# Altium integrated library Cypress Clocks & Buffers Clock Distribution.IntLib: 321 symbols (part 15 of 25)
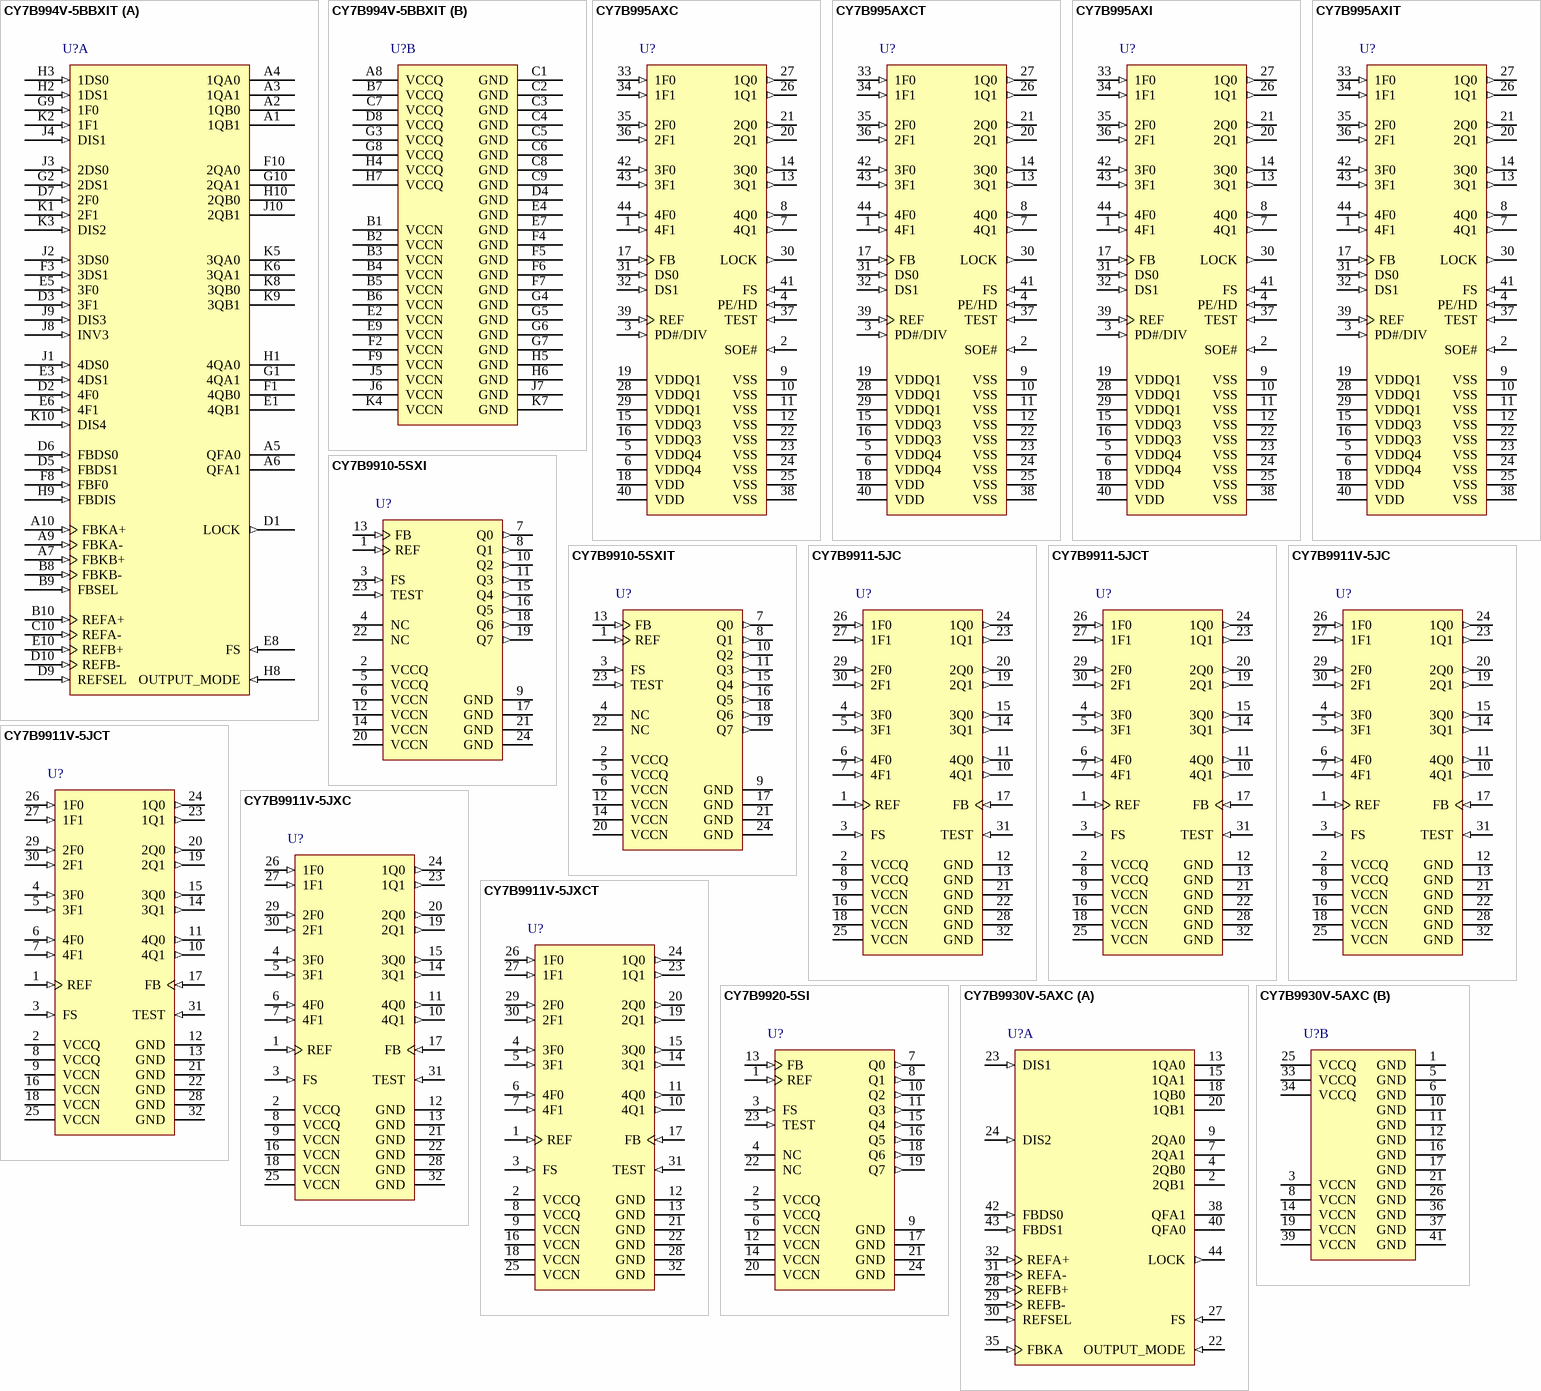
[diagram p30: symbols CY7B994V-5BBXIT to CY7B9930V-5AXC]

## CY7B9930V-5AXC
designator U?
High Speed Multifrequency PLL Clock Buffer, 3.3 V, 10 Outputs, 12 to 100 MHz, 0 to 70 degC, 44-Pin TQFP (AX44), Tube; Manufacturer: Cypress; PartNumber: CY7B9930V-5AXC; Input Frequency Max. (MHz): 100; Input Frequency Min. (MHz): 12; Max. Operating Voltage (V): 3.6; Min. Operating Voltage (V): 3; No. of Outputs: 10; DatasheetVersion: Rev. *H; PackageVersion: Rev. *E; PackageReference: AX44; PackageDescription: 44-pin TQFP, Body 12 x 12 mm, Pitch 0.8 mm; Supplier 1: Digi-Key; Supplier Part Number 1: CY7B9930V-5AXC-ND; Supplier 2: Mouser; Supplier Part Number 2: 727-CY7B9930V5AXC; Max. Operating Temp. (degreesC): 70; Min. Operating Temp. (degreesC): 0; Output Frequency Max. (MHz): 100; Output Frequency Min. (MHz): 12; Packing: Tube; RoHS: Pb-Free; Mounting Technology: Surface Mount; Code_JEDEC: MS-026; ComponentLink1Description: Manufacturer URL; ComponentLink1URL: http://www.cypress.com/; ComponentLink2Description: Datasheet; ComponentLink2URL: http://www.cypress.com/?docID=46788; ComponentLink3Description: Package Specification; ComponentLink3URL: http://www.cypress.com/?docID=46324
footprint CYP-AX44-51-85064_N (TQFP, 44-Leads, Body 10x10mm, Pitch 0.8mm, IPC Medium Density)
footprint CYP-AX44-51-85064_L (TQFP, 44-Leads, Body 10x10mm, Pitch 0.8mm, IPC High Density)
footprint CYP-AX44-51-85064_M (TQFP, 44-Leads, Body 10x10mm, Pitch 0.8mm, IPC Low Density)
part A pins: 2 2QB1 (hiz) "Clock Output.", 4 2QB0 (hiz) "Clock Output.", 7 2QA1 (hiz) "Clock Output.", 9 2QA0 (hiz) "Clock Output.", 13 1QA0 (hiz) "Clock Output.", 15 1QA1 (hiz) "Clock Output.", 18 1QB0 (hiz) "Clock Output.", 20 1QB1 (hiz) "Clock Output.", 22 OUTPUT_MODE (in) "Output Mode: This pin determines the clock outputs’ disable state. When this input is HIGH, the clock outputs disable to high impedance (HI-Z). When this input is LOW, the clock outputs disables to “HOLD OFF” (See Datasheet)", 23 DIS1 (in) "Output Disable: Each input controls the state of the respective output bank. When HIGH, the output bank is disabled to the “HOLD OFF” or “HI-Z” state; the disable state is determined by OUTPUT_MODE. When L(See Datasheet)", 24 DIS2 (in) "Output Disable: Each input controls the state of the respective output bank. When HIGH, the output bank is disabled to the “HOLD OFF” or “HI-Z” state; the disable state is determined by OUTPUT_MODE. When L(See Datasheet)", 27 FS (in) "Frequency Select: Set this input according to the nominal frequency (fNOM). See Table 1.", 28 REFB+ (in) "Reference Inputs: These inputs operate as either differential PECL or single ended TTL reference inputs to the PLL. When operating as a single ended LVTTL input, leave the complementary input must be left open.", 29 REFB- (in) "Reference Inputs: These inputs operate as either differential PECL or single ended TTL reference inputs to the PLL. When operating as a single ended LVTTL input, leave the complementary input must be left open.", 30 REFSEL (in) "Reference Select Input: The REFSEL input controls reference input configuration. When LOW, it uses the REFA pair as the reference input. When HIGH, it uses the REFB pair as the reference input. This input has an internal (See Datasheet)", 31 REFA- (in) "Reference Inputs: These inputs operate as either differential PECL or single ended TTL reference inputs to the PLL. When operating as a single ended LVTTL input, leave the complementary input must be left open.", 32 REFA+ (in) "Reference Inputs: These inputs operate as either differential PECL or single ended TTL reference inputs to the PLL. When operating as a single ended LVTTL input, leave the complementary input must be left open.", 35 FBKA (in) "Feedback Input.", 38 QFA1 (hiz) "Clock Feedback Output: This pair of clock outputs connects to the FB input. These outputs have numerous divide options. The function is determined by the setting of the FBDS[0:1] pins.", 40 QFA0 (hiz) "Clock Feedback Output: This pair of clock outputs connects to the FB input. These outputs have numerous divide options. The function is determined by the setting of the FBDS[0:1] pins.", 42 FBDS0 (in) "Feedback Divider Function Select. These inputs determine the function of the QFA0 and QFA1 outputs. See Table 2.", 43 FBDS1 (in) "Feedback Divider Function Select. These inputs determine the function of the QFA0 and QFA1 outputs. See Table 2.", 44 LOCK (out) "PLL Lock Indicator: When HIGH, this output indicates that the internal PLL is locked to the reference signal. When LOW, the PLL is attempting to acquire lock."
part B pins: 1 GND (power) "Device Ground.", 3 VCCN (power) "Output Buffer Power: Power supply for each output pair.", 5 GND (power) "Device Ground.", 6 GND (power) "Device Ground.", 8 VCCN (power) "Output Buffer Power: Power supply for each output pair.", 10 GND (power) "Device Ground.", 11 GND (power) "Device Ground.", 12 GND (power) "Device Ground.", 14 VCCN (power) "Output Buffer Power: Power supply for each output pair.", 16 GND (power) "Device Ground.", 17 GND (power) "Device Ground.", 19 VCCN (power) "Output Buffer Power: Power supply for each output pair.", 21 GND (power) "Device Ground.", 25 VCCQ (power) "Internal Power: Power supply for the internal circuitry.", 26 GND (power) "Device Ground.", 33 VCCQ (power) "Internal Power: Power supply for the internal circuitry.", 34 VCCQ (power) "Internal Power: Power supply for the internal circuitry.", 36 GND (power) "Device Ground.", 37 GND (power) "Device Ground.", 39 VCCN (power) "Output Buffer Power: Power supply for each output pair.", 41 GND (power) "Device Ground."

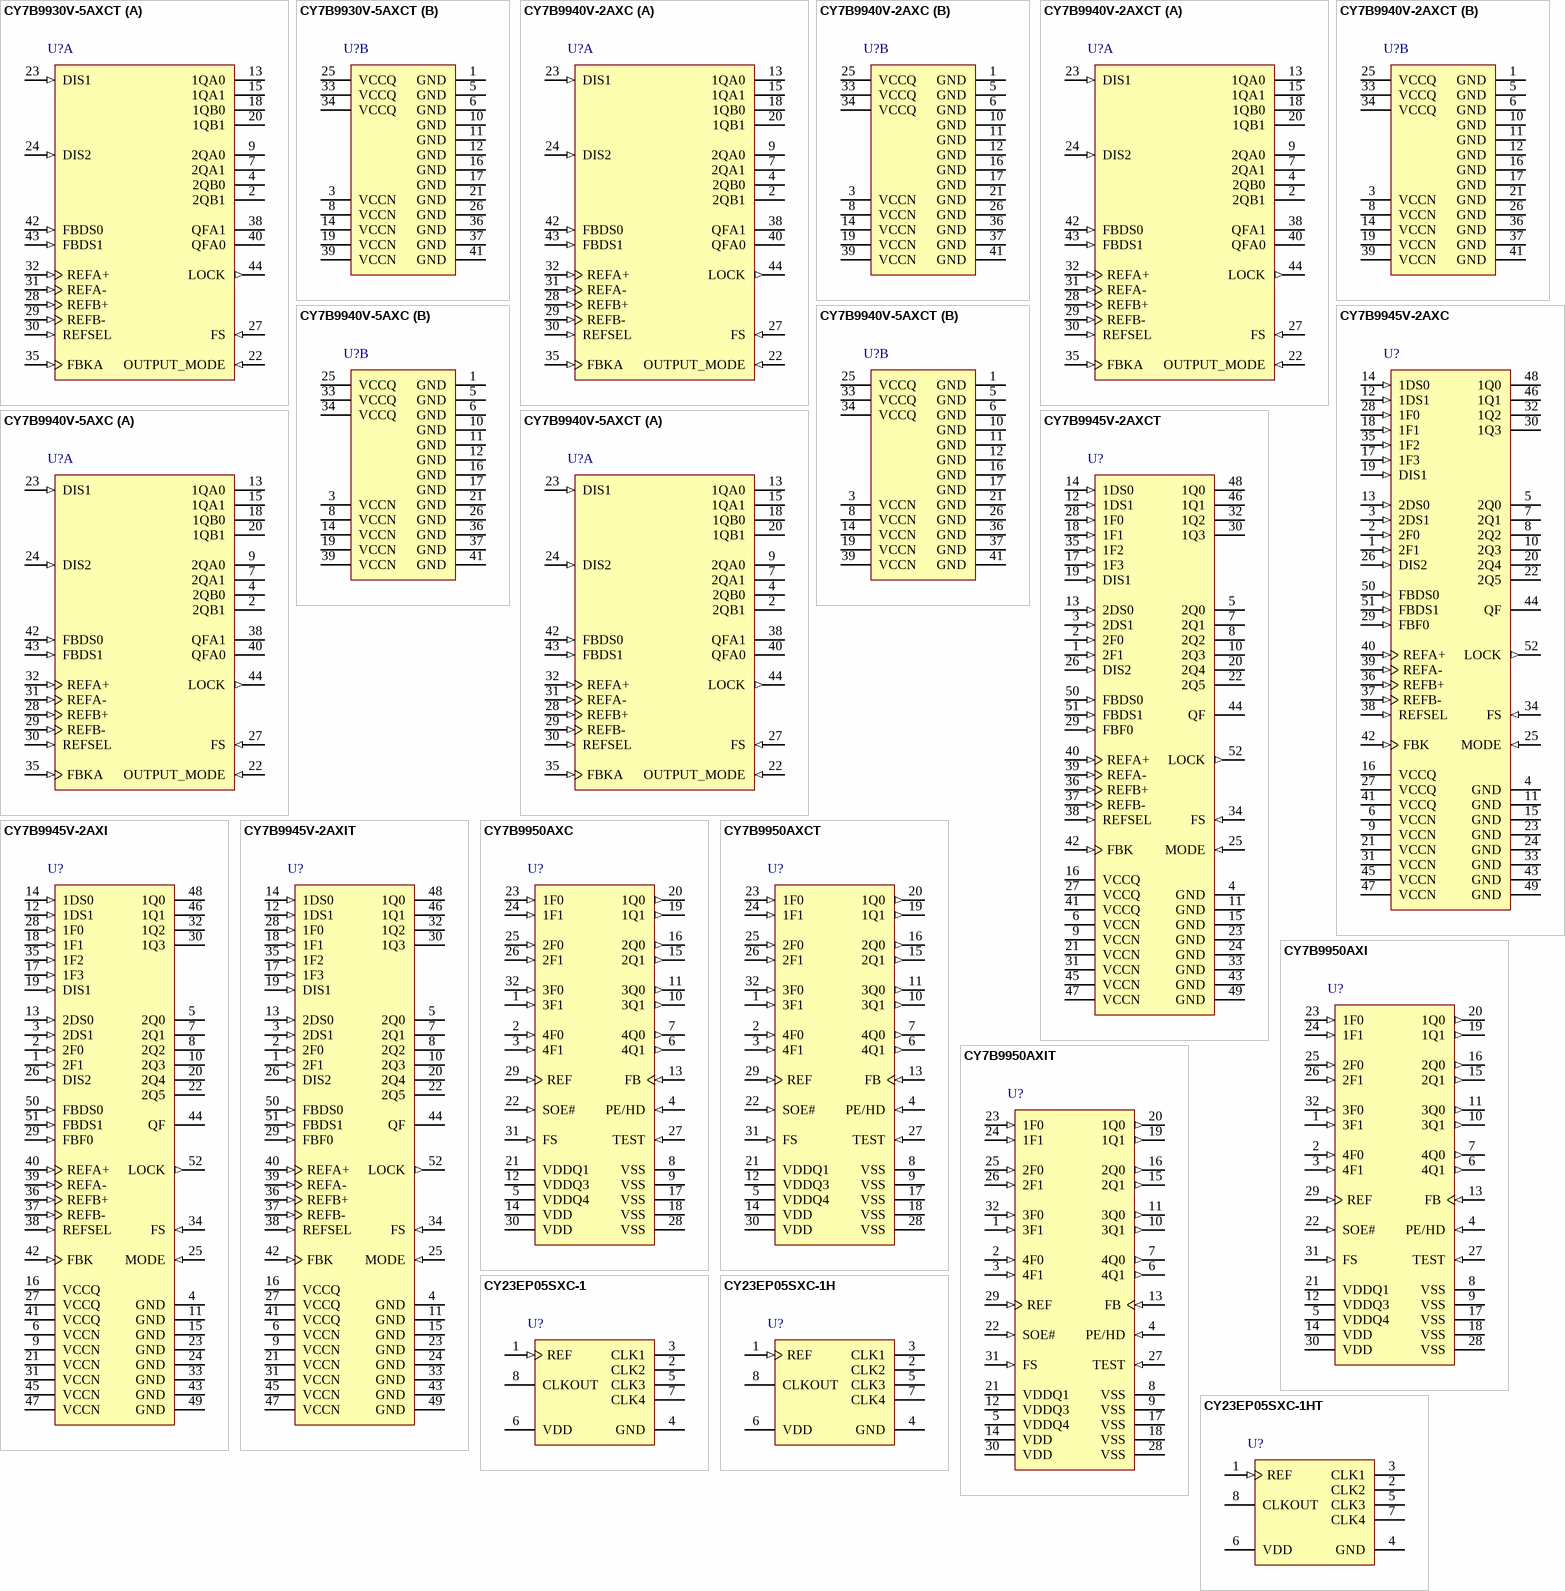
[diagram p9: symbols CY7B9930V-5AXCT to CY23EP05SXC-1HT]

## CY7B9930V-5AXCT
designator U?
High Speed Multifrequency PLL Clock Buffer, 3.3 V, 10 Outputs, 12 to 100 MHz, 0 to 70 degC, 44-Pin TQFP (AX44), Tape and Reel; Manufacturer: Cypress; PartNumber: CY7B9930V-5AXCT; Input Frequency Max. (MHz): 100; Input Frequency Min. (MHz): 12; Max. Operating Voltage (V): 3.6; Min. Operating Voltage (V): 3; No. of Outputs: 10; DatasheetVersion: Rev. *H; PackageVersion: Rev. *E; PackageReference: AX44; PackageDescription: 44-pin TQFP, Body 12 x 12 mm, Pitch 0.8 mm; Supplier 1: Digi-Key; Supplier Part Number 1: CY7B9930V-5AXCT-ND; Supplier 2: Mouser; Supplier Part Number 2: 727-CY7B9930V5AXCT; Max. Operating Temp. (degreesC): 70; Min. Operating Temp. (degreesC): 0; Output Frequency Max. (MHz): 100; Output Frequency Min. (MHz): 12; Packing: Tape and Reel; RoHS: Pb-Free; Mounting Technology: Surface Mount; Code_JEDEC: MS-026; ComponentLink1Description: Manufacturer URL; ComponentLink1URL: http://www.cypress.com/; ComponentLink2Description: Datasheet; ComponentLink2URL: http://www.cypress.com/?docID=46788; ComponentLink3Description: Package Specification; ComponentLink3URL: http://www.cypress.com/?docID=46324
footprint CYP-AX44-51-85064_N (TQFP, 44-Leads, Body 10x10mm, Pitch 0.8mm, IPC Medium Density)
footprint CYP-AX44-51-85064_L (TQFP, 44-Leads, Body 10x10mm, Pitch 0.8mm, IPC High Density)
footprint CYP-AX44-51-85064_M (TQFP, 44-Leads, Body 10x10mm, Pitch 0.8mm, IPC Low Density)
part A pins: 2 2QB1 (hiz) "Clock Output.", 4 2QB0 (hiz) "Clock Output.", 7 2QA1 (hiz) "Clock Output.", 9 2QA0 (hiz) "Clock Output.", 13 1QA0 (hiz) "Clock Output.", 15 1QA1 (hiz) "Clock Output.", 18 1QB0 (hiz) "Clock Output.", 20 1QB1 (hiz) "Clock Output.", 22 OUTPUT_MODE (in) "Output Mode: This pin determines the clock outputs’ disable state. When this input is HIGH, the clock outputs disable to high impedance (HI-Z). When this input is LOW, the clock outputs disables to “HOLD OFF” (See Datasheet)", 23 DIS1 (in) "Output Disable: Each input controls the state of the respective output bank. When HIGH, the output bank is disabled to the “HOLD OFF” or “HI-Z” state; the disable state is determined by OUTPUT_MODE. When L(See Datasheet)", 24 DIS2 (in) "Output Disable: Each input controls the state of the respective output bank. When HIGH, the output bank is disabled to the “HOLD OFF” or “HI-Z” state; the disable state is determined by OUTPUT_MODE. When L(See Datasheet)", 27 FS (in) "Frequency Select: Set this input according to the nominal frequency (fNOM). See Table 1.", 28 REFB+ (in) "Reference Inputs: These inputs operate as either differential PECL or single ended TTL reference inputs to the PLL. When operating as a single ended LVTTL input, leave the complementary input must be left open.", 29 REFB- (in) "Reference Inputs: These inputs operate as either differential PECL or single ended TTL reference inputs to the PLL. When operating as a single ended LVTTL input, leave the complementary input must be left open.", 30 REFSEL (in) "Reference Select Input: The REFSEL input controls reference input configuration. When LOW, it uses the REFA pair as the reference input. When HIGH, it uses the REFB pair as the reference input. This input has an internal (See Datasheet)", 31 REFA- (in) "Reference Inputs: These inputs operate as either differential PECL or single ended TTL reference inputs to the PLL. When operating as a single ended LVTTL input, leave the complementary input must be left open.", 32 REFA+ (in) "Reference Inputs: These inputs operate as either differential PECL or single ended TTL reference inputs to the PLL. When operating as a single ended LVTTL input, leave the complementary input must be left open.", 35 FBKA (in) "Feedback Input.", 38 QFA1 (hiz) "Clock Feedback Output: This pair of clock outputs connects to the FB input. These outputs have numerous divide options. The function is determined by the setting of the FBDS[0:1] pins.", 40 QFA0 (hiz) "Clock Feedback Output: This pair of clock outputs connects to the FB input. These outputs have numerous divide options. The function is determined by the setting of the FBDS[0:1] pins.", 42 FBDS0 (in) "Feedback Divider Function Select. These inputs determine the function of the QFA0 and QFA1 outputs. See Table 2.", 43 FBDS1 (in) "Feedback Divider Function Select. These inputs determine the function of the QFA0 and QFA1 outputs. See Table 2.", 44 LOCK (out) "PLL Lock Indicator: When HIGH, this output indicates that the internal PLL is locked to the reference signal. When LOW, the PLL is attempting to acquire lock."
part B pins: 1 GND (power) "Device Ground.", 3 VCCN (power) "Output Buffer Power: Power supply for each output pair.", 5 GND (power) "Device Ground.", 6 GND (power) "Device Ground.", 8 VCCN (power) "Output Buffer Power: Power supply for each output pair.", 10 GND (power) "Device Ground.", 11 GND (power) "Device Ground.", 12 GND (power) "Device Ground.", 14 VCCN (power) "Output Buffer Power: Power supply for each output pair.", 16 GND (power) "Device Ground.", 17 GND (power) "Device Ground.", 19 VCCN (power) "Output Buffer Power: Power supply for each output pair.", 21 GND (power) "Device Ground.", 25 VCCQ (power) "Internal Power: Power supply for the internal circuitry.", 26 GND (power) "Device Ground.", 33 VCCQ (power) "Internal Power: Power supply for the internal circuitry.", 34 VCCQ (power) "Internal Power: Power supply for the internal circuitry.", 36 GND (power) "Device Ground.", 37 GND (power) "Device Ground.", 39 VCCN (power) "Output Buffer Power: Power supply for each output pair.", 41 GND (power) "Device Ground."

## CY7B9940V-2AXC
designator U?
High Speed Multifrequency PLL Clock Buffer, 3.3 V, 10 Outputs, 24 to 200 MHz, 0 to 70 degC, 44-Pin TQFP (AX44), Tube; Manufacturer: Cypress; PartNumber: CY7B9940V-2AXC; Input Frequency Max. (MHz): 200; Input Frequency Min. (MHz): 24; Max. Operating Voltage (V): 3.6; Min. Operating Voltage (V): 3; No. of Outputs: 10; DatasheetVersion: Rev. *H; PackageVersion: Rev. *E; PackageReference: AX44; PackageDescription: 44-pin TQFP, Body 12 x 12 mm, Pitch 0.8 mm; Supplier 1: Digi-Key; Supplier Part Number 1: CY7B9940V-2AXC-ND; Supplier 2: Mouser; Supplier Part Number 2: 727-CY7B9940V2AXC; Max. Operating Temp. (degreesC): 70; Min. Operating Temp. (degreesC): 0; Output Frequency Max. (MHz): 200; Output Frequency Min. (MHz): 24; Packing: Tube; RoHS: Pb-Free; Mounting Technology: Surface Mount; Code_JEDEC: MS-026; ComponentLink1Description: Manufacturer URL; ComponentLink1URL: http://www.cypress.com/; ComponentLink2Description: Datasheet; ComponentLink2URL: http://www.cypress.com/?docID=46788; ComponentLink3Description: Package Specification; ComponentLink3URL: http://www.cypress.com/?docID=46324
footprint CYP-AX44-51-85064_N (TQFP, 44-Leads, Body 10x10mm, Pitch 0.8mm, IPC Medium Density)
footprint CYP-AX44-51-85064_L (TQFP, 44-Leads, Body 10x10mm, Pitch 0.8mm, IPC High Density)
footprint CYP-AX44-51-85064_M (TQFP, 44-Leads, Body 10x10mm, Pitch 0.8mm, IPC Low Density)
part A pins: 2 2QB1 (hiz) "Clock Output.", 4 2QB0 (hiz) "Clock Output.", 7 2QA1 (hiz) "Clock Output.", 9 2QA0 (hiz) "Clock Output.", 13 1QA0 (hiz) "Clock Output.", 15 1QA1 (hiz) "Clock Output.", 18 1QB0 (hiz) "Clock Output.", 20 1QB1 (hiz) "Clock Output.", 22 OUTPUT_MODE (in) "Output Mode: This pin determines the clock outputs’ disable state. When this input is HIGH, the clock outputs disable to high impedance (HI-Z). When this input is LOW, the clock outputs disables to “HOLD OFF” (See Datasheet)", 23 DIS1 (in) "Output Disable: Each input controls the state of the respective output bank. When HIGH, the output bank is disabled to the “HOLD OFF” or “HI-Z” state; the disable state is determined by OUTPUT_MODE. When L(See Datasheet)", 24 DIS2 (in) "Output Disable: Each input controls the state of the respective output bank. When HIGH, the output bank is disabled to the “HOLD OFF” or “HI-Z” state; the disable state is determined by OUTPUT_MODE. When L(See Datasheet)", 27 FS (in) "Frequency Select: Set this input according to the nominal frequency (fNOM). See Table 1.", 28 REFB+ (in) "Reference Inputs: These inputs operate as either differential PECL or single ended TTL reference inputs to the PLL. When operating as a single ended LVTTL input, leave the complementary input must be left open.", 29 REFB- (in) "Reference Inputs: These inputs operate as either differential PECL or single ended TTL reference inputs to the PLL. When operating as a single ended LVTTL input, leave the complementary input must be left open.", 30 REFSEL (in) "Reference Select Input: The REFSEL input controls reference input configuration. When LOW, it uses the REFA pair as the reference input. When HIGH, it uses the REFB pair as the reference input. This input has an internal (See Datasheet)", 31 REFA- (in) "Reference Inputs: These inputs operate as either differential PECL or single ended TTL reference inputs to the PLL. When operating as a single ended LVTTL input, leave the complementary input must be left open.", 32 REFA+ (in) "Reference Inputs: These inputs operate as either differential PECL or single ended TTL reference inputs to the PLL. When operating as a single ended LVTTL input, leave the complementary input must be left open.", 35 FBKA (in) "Feedback Input.", 38 QFA1 (hiz) "Clock Feedback Output: This pair of clock outputs connects to the FB input. These outputs have numerous divide options. The function is determined by the setting of the FBDS[0:1] pins.", 40 QFA0 (hiz) "Clock Feedback Output: This pair of clock outputs connects to the FB input. These outputs have numerous divide options. The function is determined by the setting of the FBDS[0:1] pins.", 42 FBDS0 (in) "Feedback Divider Function Select. These inputs determine the function of the QFA0 and QFA1 outputs. See Table 2.", 43 FBDS1 (in) "Feedback Divider Function Select. These inputs determine the function of the QFA0 and QFA1 outputs. See Table 2.", 44 LOCK (out) "PLL Lock Indicator: When HIGH, this output indicates that the internal PLL is locked to the reference signal. When LOW, the PLL is attempting to acquire lock."
part B pins: 1 GND (power) "Device Ground.", 3 VCCN (power) "Output Buffer Power: Power supply for each output pair.", 5 GND (power) "Device Ground.", 6 GND (power) "Device Ground.", 8 VCCN (power) "Output Buffer Power: Power supply for each output pair.", 10 GND (power) "Device Ground.", 11 GND (power) "Device Ground.", 12 GND (power) "Device Ground.", 14 VCCN (power) "Output Buffer Power: Power supply for each output pair.", 16 GND (power) "Device Ground.", 17 GND (power) "Device Ground.", 19 VCCN (power) "Output Buffer Power: Power supply for each output pair.", 21 GND (power) "Device Ground.", 25 VCCQ (power) "Internal Power: Power supply for the internal circuitry.", 26 GND (power) "Device Ground.", 33 VCCQ (power) "Internal Power: Power supply for the internal circuitry.", 34 VCCQ (power) "Internal Power: Power supply for the internal circuitry.", 36 GND (power) "Device Ground.", 37 GND (power) "Device Ground.", 39 VCCN (power) "Output Buffer Power: Power supply for each output pair.", 41 GND (power) "Device Ground."

## CY7B9940V-2AXCT
designator U?
High Speed Multifrequency PLL Clock Buffer, 3.3 V, 10 Outputs, 24 to 200 MHz, 0 to 70 degC, 44-Pin TQFP (AX44), Tape and Reel; Manufacturer: Cypress; PartNumber: CY7B9940V-2AXCT; Input Frequency Max. (MHz): 200; Input Frequency Min. (MHz): 24; Max. Operating Voltage (V): 3.6; Min. Operating Voltage (V): 3; No. of Outputs: 10; DatasheetVersion: Rev. *H; PackageVersion: Rev. *E; PackageReference: AX44; PackageDescription: 44-pin TQFP, Body 12 x 12 mm, Pitch 0.8 mm; Supplier 1: Digi-Key; Supplier Part Number 1: CY7B9940V-2AXCT-ND; Supplier 2: Mouser; Supplier Part Number 2: 727-CY7B9940V2AXCT; Max. Operating Temp. (degreesC): 70; Min. Operating Temp. (degreesC): 0; Output Frequency Max. (MHz): 200; Output Frequency Min. (MHz): 24; Packing: Tape and Reel; RoHS: Pb-Free; Mounting Technology: Surface Mount; Code_JEDEC: MS-026; ComponentLink1Description: Manufacturer URL; ComponentLink1URL: http://www.cypress.com/; ComponentLink2Description: Datasheet; ComponentLink2URL: http://www.cypress.com/?docID=46788; ComponentLink3Description: Package Specification; ComponentLink3URL: http://www.cypress.com/?docID=46324
footprint CYP-AX44-51-85064_N (TQFP, 44-Leads, Body 10x10mm, Pitch 0.8mm, IPC Medium Density)
footprint CYP-AX44-51-85064_L (TQFP, 44-Leads, Body 10x10mm, Pitch 0.8mm, IPC High Density)
footprint CYP-AX44-51-85064_M (TQFP, 44-Leads, Body 10x10mm, Pitch 0.8mm, IPC Low Density)
part A pins: 2 2QB1 (hiz) "Clock Output.", 4 2QB0 (hiz) "Clock Output.", 7 2QA1 (hiz) "Clock Output.", 9 2QA0 (hiz) "Clock Output.", 13 1QA0 (hiz) "Clock Output.", 15 1QA1 (hiz) "Clock Output.", 18 1QB0 (hiz) "Clock Output.", 20 1QB1 (hiz) "Clock Output.", 22 OUTPUT_MODE (in) "Output Mode: This pin determines the clock outputs’ disable state. When this input is HIGH, the clock outputs disable to high impedance (HI-Z). When this input is LOW, the clock outputs disables to “HOLD OFF” (See Datasheet)", 23 DIS1 (in) "Output Disable: Each input controls the state of the respective output bank. When HIGH, the output bank is disabled to the “HOLD OFF” or “HI-Z” state; the disable state is determined by OUTPUT_MODE. When L(See Datasheet)", 24 DIS2 (in) "Output Disable: Each input controls the state of the respective output bank. When HIGH, the output bank is disabled to the “HOLD OFF” or “HI-Z” state; the disable state is determined by OUTPUT_MODE. When L(See Datasheet)", 27 FS (in) "Frequency Select: Set this input according to the nominal frequency (fNOM). See Table 1.", 28 REFB+ (in) "Reference Inputs: These inputs operate as either differential PECL or single ended TTL reference inputs to the PLL. When operating as a single ended LVTTL input, leave the complementary input must be left open.", 29 REFB- (in) "Reference Inputs: These inputs operate as either differential PECL or single ended TTL reference inputs to the PLL. When operating as a single ended LVTTL input, leave the complementary input must be left open.", 30 REFSEL (in) "Reference Select Input: The REFSEL input controls reference input configuration. When LOW, it uses the REFA pair as the reference input. When HIGH, it uses the REFB pair as the reference input. This input has an internal (See Datasheet)", 31 REFA- (in) "Reference Inputs: These inputs operate as either differential PECL or single ended TTL reference inputs to the PLL. When operating as a single ended LVTTL input, leave the complementary input must be left open.", 32 REFA+ (in) "Reference Inputs: These inputs operate as either differential PECL or single ended TTL reference inputs to the PLL. When operating as a single ended LVTTL input, leave the complementary input must be left open.", 35 FBKA (in) "Feedback Input.", 38 QFA1 (hiz) "Clock Feedback Output: This pair of clock outputs connects to the FB input. These outputs have numerous divide options. The function is determined by the setting of the FBDS[0:1] pins.", 40 QFA0 (hiz) "Clock Feedback Output: This pair of clock outputs connects to the FB input. These outputs have numerous divide options. The function is determined by the setting of the FBDS[0:1] pins.", 42 FBDS0 (in) "Feedback Divider Function Select. These inputs determine the function of the QFA0 and QFA1 outputs. See Table 2.", 43 FBDS1 (in) "Feedback Divider Function Select. These inputs determine the function of the QFA0 and QFA1 outputs. See Table 2.", 44 LOCK (out) "PLL Lock Indicator: When HIGH, this output indicates that the internal PLL is locked to the reference signal. When LOW, the PLL is attempting to acquire lock."
part B pins: 1 GND (power) "Device Ground.", 3 VCCN (power) "Output Buffer Power: Power supply for each output pair.", 5 GND (power) "Device Ground.", 6 GND (power) "Device Ground.", 8 VCCN (power) "Output Buffer Power: Power supply for each output pair.", 10 GND (power) "Device Ground.", 11 GND (power) "Device Ground.", 12 GND (power) "Device Ground.", 14 VCCN (power) "Output Buffer Power: Power supply for each output pair.", 16 GND (power) "Device Ground.", 17 GND (power) "Device Ground.", 19 VCCN (power) "Output Buffer Power: Power supply for each output pair.", 21 GND (power) "Device Ground.", 25 VCCQ (power) "Internal Power: Power supply for the internal circuitry.", 26 GND (power) "Device Ground.", 33 VCCQ (power) "Internal Power: Power supply for the internal circuitry.", 34 VCCQ (power) "Internal Power: Power supply for the internal circuitry.", 36 GND (power) "Device Ground.", 37 GND (power) "Device Ground.", 39 VCCN (power) "Output Buffer Power: Power supply for each output pair.", 41 GND (power) "Device Ground."

## CY7B9940V-5AXC
designator U?
High Speed Multifrequency PLL Clock Buffer, 3.3 V, 10 Outputs, 24 to 200 MHz, 0 to 70 degC, 44-Pin TQFP (AX44), Tube; Manufacturer: Cypress; PartNumber: CY7B9940V-5AXC; Input Frequency Max. (MHz): 200; Input Frequency Min. (MHz): 24; Max. Operating Voltage (V): 3.6; Min. Operating Voltage (V): 3; No. of Outputs: 10; DatasheetVersion: Rev. *H; PackageVersion: Rev. *E; PackageReference: AX44; PackageDescription: 44-pin TQFP, Body 12 x 12 mm, Pitch 0.8 mm; Supplier 1: Digi-Key; Supplier Part Number 1: CY7B9940V-5AXC-ND; Supplier 2: Mouser; Supplier Part Number 2: 727-CY7B9940V5AXC; Max. Operating Temp. (degreesC): 70; Min. Operating Temp. (degreesC): 0; Output Frequency Max. (MHz): 200; Output Frequency Min. (MHz): 24; Packing: Tube; RoHS: Pb-Free; Mounting Technology: Surface Mount; Code_JEDEC: MS-026; ComponentLink1Description: Manufacturer URL; ComponentLink1URL: http://www.cypress.com/; ComponentLink2Description: Datasheet; ComponentLink2URL: http://www.cypress.com/?docID=46788; ComponentLink3Description: Package Specification; ComponentLink3URL: http://www.cypress.com/?docID=46324
footprint CYP-AX44-51-85064_N (TQFP, 44-Leads, Body 10x10mm, Pitch 0.8mm, IPC Medium Density)
footprint CYP-AX44-51-85064_L (TQFP, 44-Leads, Body 10x10mm, Pitch 0.8mm, IPC High Density)
footprint CYP-AX44-51-85064_M (TQFP, 44-Leads, Body 10x10mm, Pitch 0.8mm, IPC Low Density)
part A pins: 2 2QB1 (hiz) "Clock Output.", 4 2QB0 (hiz) "Clock Output.", 7 2QA1 (hiz) "Clock Output.", 9 2QA0 (hiz) "Clock Output.", 13 1QA0 (hiz) "Clock Output.", 15 1QA1 (hiz) "Clock Output.", 18 1QB0 (hiz) "Clock Output.", 20 1QB1 (hiz) "Clock Output.", 22 OUTPUT_MODE (in) "Output Mode: This pin determines the clock outputs’ disable state. When this input is HIGH, the clock outputs disable to high impedance (HI-Z). When this input is LOW, the clock outputs disables to “HOLD OFF” (See Datasheet)", 23 DIS1 (in) "Output Disable: Each input controls the state of the respective output bank. When HIGH, the output bank is disabled to the “HOLD OFF” or “HI-Z” state; the disable state is determined by OUTPUT_MODE. When L(See Datasheet)", 24 DIS2 (in) "Output Disable: Each input controls the state of the respective output bank. When HIGH, the output bank is disabled to the “HOLD OFF” or “HI-Z” state; the disable state is determined by OUTPUT_MODE. When L(See Datasheet)", 27 FS (in) "Frequency Select: Set this input according to the nominal frequency (fNOM). See Table 1.", 28 REFB+ (in) "Reference Inputs: These inputs operate as either differential PECL or single ended TTL reference inputs to the PLL. When operating as a single ended LVTTL input, leave the complementary input must be left open.", 29 REFB- (in) "Reference Inputs: These inputs operate as either differential PECL or single ended TTL reference inputs to the PLL. When operating as a single ended LVTTL input, leave the complementary input must be left open.", 30 REFSEL (in) "Reference Select Input: The REFSEL input controls reference input configuration. When LOW, it uses the REFA pair as the reference input. When HIGH, it uses the REFB pair as the reference input. This input has an internal (See Datasheet)", 31 REFA- (in) "Reference Inputs: These inputs operate as either differential PECL or single ended TTL reference inputs to the PLL. When operating as a single ended LVTTL input, leave the complementary input must be left open.", 32 REFA+ (in) "Reference Inputs: These inputs operate as either differential PECL or single ended TTL reference inputs to the PLL. When operating as a single ended LVTTL input, leave the complementary input must be left open.", 35 FBKA (in) "Feedback Input.", 38 QFA1 (hiz) "Clock Feedback Output: This pair of clock outputs connects to the FB input. These outputs have numerous divide options. The function is determined by the setting of the FBDS[0:1] pins.", 40 QFA0 (hiz) "Clock Feedback Output: This pair of clock outputs connects to the FB input. These outputs have numerous divide options. The function is determined by the setting of the FBDS[0:1] pins.", 42 FBDS0 (in) "Feedback Divider Function Select. These inputs determine the function of the QFA0 and QFA1 outputs. See Table 2.", 43 FBDS1 (in) "Feedback Divider Function Select. These inputs determine the function of the QFA0 and QFA1 outputs. See Table 2.", 44 LOCK (out) "PLL Lock Indicator: When HIGH, this output indicates that the internal PLL is locked to the reference signal. When LOW, the PLL is attempting to acquire lock."
part B pins: 1 GND (power) "Device Ground.", 3 VCCN (power) "Output Buffer Power: Power supply for each output pair.", 5 GND (power) "Device Ground.", 6 GND (power) "Device Ground.", 8 VCCN (power) "Output Buffer Power: Power supply for each output pair.", 10 GND (power) "Device Ground.", 11 GND (power) "Device Ground.", 12 GND (power) "Device Ground.", 14 VCCN (power) "Output Buffer Power: Power supply for each output pair.", 16 GND (power) "Device Ground.", 17 GND (power) "Device Ground.", 19 VCCN (power) "Output Buffer Power: Power supply for each output pair.", 21 GND (power) "Device Ground.", 25 VCCQ (power) "Internal Power: Power supply for the internal circuitry.", 26 GND (power) "Device Ground.", 33 VCCQ (power) "Internal Power: Power supply for the internal circuitry.", 34 VCCQ (power) "Internal Power: Power supply for the internal circuitry.", 36 GND (power) "Device Ground.", 37 GND (power) "Device Ground.", 39 VCCN (power) "Output Buffer Power: Power supply for each output pair.", 41 GND (power) "Device Ground."

## CY7B9940V-5AXCT
designator U?
High Speed Multifrequency PLL Clock Buffer, 3.3 V, 10 Outputs, 24 to 200 MHz, 0 to 70 degC, 44-Pin TQFP (AX44), Tape and Reel; Manufacturer: Cypress; PartNumber: CY7B9940V-5AXCT; Input Frequency Max. (MHz): 200; Input Frequency Min. (MHz): 24; Max. Operating Voltage (V): 3.6; Min. Operating Voltage (V): 3; No. of Outputs: 10; DatasheetVersion: Rev. *H; PackageVersion: Rev. *E; PackageReference: AX44; PackageDescription: 44-pin TQFP, Body 12 x 12 mm, Pitch 0.8 mm; Supplier 1: Digi-Key; Supplier Part Number 1: CY7B9940V-5AXCT-ND; Supplier 2: Mouser; Supplier Part Number 2: 727-CY7B9940V5AXCT; Max. Operating Temp. (degreesC): 70; Min. Operating Temp. (degreesC): 0; Output Frequency Max. (MHz): 200; Output Frequency Min. (MHz): 24; Packing: Tape and Reel; RoHS: Pb-Free; Mounting Technology: Surface Mount; Code_JEDEC: MS-026; ComponentLink1Description: Manufacturer URL; ComponentLink1URL: http://www.cypress.com/; ComponentLink2Description: Datasheet; ComponentLink2URL: http://www.cypress.com/?docID=46788; ComponentLink3Description: Package Specification; ComponentLink3URL: http://www.cypress.com/?docID=46324
footprint CYP-AX44-51-85064_N (TQFP, 44-Leads, Body 10x10mm, Pitch 0.8mm, IPC Medium Density)
footprint CYP-AX44-51-85064_L (TQFP, 44-Leads, Body 10x10mm, Pitch 0.8mm, IPC High Density)
footprint CYP-AX44-51-85064_M (TQFP, 44-Leads, Body 10x10mm, Pitch 0.8mm, IPC Low Density)
part A pins: 2 2QB1 (hiz) "Clock Output.", 4 2QB0 (hiz) "Clock Output.", 7 2QA1 (hiz) "Clock Output.", 9 2QA0 (hiz) "Clock Output.", 13 1QA0 (hiz) "Clock Output.", 15 1QA1 (hiz) "Clock Output.", 18 1QB0 (hiz) "Clock Output.", 20 1QB1 (hiz) "Clock Output.", 22 OUTPUT_MODE (in) "Output Mode: This pin determines the clock outputs’ disable state. When this input is HIGH, the clock outputs disable to high impedance (HI-Z). When this input is LOW, the clock outputs disables to “HOLD OFF” (See Datasheet)", 23 DIS1 (in) "Output Disable: Each input controls the state of the respective output bank. When HIGH, the output bank is disabled to the “HOLD OFF” or “HI-Z” state; the disable state is determined by OUTPUT_MODE. When L(See Datasheet)", 24 DIS2 (in) "Output Disable: Each input controls the state of the respective output bank. When HIGH, the output bank is disabled to the “HOLD OFF” or “HI-Z” state; the disable state is determined by OUTPUT_MODE. When L(See Datasheet)", 27 FS (in) "Frequency Select: Set this input according to the nominal frequency (fNOM). See Table 1.", 28 REFB+ (in) "Reference Inputs: These inputs operate as either differential PECL or single ended TTL reference inputs to the PLL. When operating as a single ended LVTTL input, leave the complementary input must be left open.", 29 REFB- (in) "Reference Inputs: These inputs operate as either differential PECL or single ended TTL reference inputs to the PLL. When operating as a single ended LVTTL input, leave the complementary input must be left open.", 30 REFSEL (in) "Reference Select Input: The REFSEL input controls reference input configuration. When LOW, it uses the REFA pair as the reference input. When HIGH, it uses the REFB pair as the reference input. This input has an internal (See Datasheet)", 31 REFA- (in) "Reference Inputs: These inputs operate as either differential PECL or single ended TTL reference inputs to the PLL. When operating as a single ended LVTTL input, leave the complementary input must be left open.", 32 REFA+ (in) "Reference Inputs: These inputs operate as either differential PECL or single ended TTL reference inputs to the PLL. When operating as a single ended LVTTL input, leave the complementary input must be left open.", 35 FBKA (in) "Feedback Input.", 38 QFA1 (hiz) "Clock Feedback Output: This pair of clock outputs connects to the FB input. These outputs have numerous divide options. The function is determined by the setting of the FBDS[0:1] pins.", 40 QFA0 (hiz) "Clock Feedback Output: This pair of clock outputs connects to the FB input. These outputs have numerous divide options. The function is determined by the setting of the FBDS[0:1] pins.", 42 FBDS0 (in) "Feedback Divider Function Select. These inputs determine the function of the QFA0 and QFA1 outputs. See Table 2.", 43 FBDS1 (in) "Feedback Divider Function Select. These inputs determine the function of the QFA0 and QFA1 outputs. See Table 2.", 44 LOCK (out) "PLL Lock Indicator: When HIGH, this output indicates that the internal PLL is locked to the reference signal. When LOW, the PLL is attempting to acquire lock."
part B pins: 1 GND (power) "Device Ground.", 3 VCCN (power) "Output Buffer Power: Power supply for each output pair.", 5 GND (power) "Device Ground.", 6 GND (power) "Device Ground.", 8 VCCN (power) "Output Buffer Power: Power supply for each output pair.", 10 GND (power) "Device Ground.", 11 GND (power) "Device Ground.", 12 GND (power) "Device Ground.", 14 VCCN (power) "Output Buffer Power: Power supply for each output pair.", 16 GND (power) "Device Ground.", 17 GND (power) "Device Ground.", 19 VCCN (power) "Output Buffer Power: Power supply for each output pair.", 21 GND (power) "Device Ground.", 25 VCCQ (power) "Internal Power: Power supply for the internal circuitry.", 26 GND (power) "Device Ground.", 33 VCCQ (power) "Internal Power: Power supply for the internal circuitry.", 34 VCCQ (power) "Internal Power: Power supply for the internal circuitry.", 36 GND (power) "Device Ground.", 37 GND (power) "Device Ground.", 39 VCCN (power) "Output Buffer Power: Power supply for each output pair.", 41 GND (power) "Device Ground."

## CY7B9945V-2AXC
designator U?
High Speed Multi-Phase PLL Clock Buffer, 3.3 V, 11 Outputs, 24 to 200 MHz, 0 to 70 degC, 52-Pin TQFP (AX52), Tube; Manufacturer: Cypress; PartNumber: CY7B9945V-2AXC; Input Frequency Max. (MHz): 200; Input Frequency Min. (MHz): 24; Max. Operating Voltage (V): 3.63; Min. Operating Voltage (V): 2.97; No. of Outputs: 11; DatasheetVersion: Rev. *K; PackageVersion: Rev. *C, 08/2012; PackageReference: AX52; PackageDescription: 52-Pin Thin Plastic Quad Flatpack, Body 10 x10 mm, Pitch 0.65 mm; Supplier 1: Digi-Key; Supplier Part Number 1: 428-2909-ND; Supplier 2: Newark; Supplier Part Number 2: 19M6606; Supplier 3: Mouser; Supplier Part Number 3: 727-CY7B9945V2AXC; Max. Operating Temp. (degreesC): 70; Min. Operating Temp. (degreesC): 0; Output Frequency Max. (MHz): 200; Output Frequency Min. (MHz): 24; Packing: Tube; RoHS: Pb-Free; Mounting Technology: Surface Mount; ComponentLink1Description: Manufacturer URL; ComponentLink1URL: http://www.cypress.com/; ComponentLink2Description: Datasheet; ComponentLink2URL: http://www.cypress.com/?docID=48486; ComponentLink3Description: Package Specification; ComponentLink3URL: http://www.cypress.com/?docID=39099
footprint CYP-AX52-51-85131_N (QFP, 52-Leads, Body 10x10mm, Pitch 0.65mm, IPC Medium Density)
footprint CYP-AX52-51-85131_L (QFP, 52-Leads, Body 10x10mm, Pitch 0.65mm, IPC High Density)
footprint CYP-AX52-51-85131_M (QFP, 52-Leads, Body 10x10mm, Pitch 0.65mm, IPC Low Density)
pins: 1 2F1 (in) "Output Phase Function Select. Each pair determines the phase of the respective bank of outputs. See Table 3.", 2 2F0 (in) "Output Phase Function Select. Each pair determines the phase of the respective bank of outputs. See Table 3.", 3 2DS1 (in) "Output Divider Function Select. Each pair determines the divider ratio of the respective bank of outputs. See Table 4.", 4 GND (power) "Device Ground", 5 2Q0 (hiz) "Clock Outputs with Adjustable Phases and fNOM Divide Ratios. The output frequencies and phases are determined by [1:2]DS[0:1], and 1F[0:3] and 2F[0:1], respectively. See Table 3 and Table 4.", 6 VCCN (power) "Power Supply for the Output Buffers", 7 2Q1 (hiz) "Clock Outputs with Adjustable Phases and fNOM Divide Ratios. The output frequencies and phases are determined by [1:2]DS[0:1], and 1F[0:3] and 2F[0:1], respectively. See Table 3 and Table 4.", 8 2Q2 (hiz) "Clock Outputs with Adjustable Phases and fNOM Divide Ratios. The output frequencies and phases are determined by [1:2]DS[0:1], and 1F[0:3] and 2F[0:1], respectively. See Table 3 and Table 4.", 9 VCCN (power) "Power Supply for the Output Buffers", 10 2Q3 (hiz) "Clock Outputs with Adjustable Phases and fNOM Divide Ratios. The output frequencies and phases are determined by [1:2]DS[0:1], and 1F[0:3] and 2F[0:1], respectively. See Table 3 and Table 4.", 11 GND (power) "Device Ground", 12 1DS1 (in) "Output Divider Function Select. Each pair determines the divider ratio of the respective bank of outputs. See Table 4.", 13 2DS0 (in) "Output Divider Function Select. Each pair determines the divider ratio of the respective bank of outputs. See Table 4.", 14 1DS0 (in) "Output Divider Function Select. Each pair determines the divider ratio of the respective bank of outputs. See Table 4.", 15 GND (power) "Device Ground", 16 VCCQ (power) "Power Supply for the Internal Circuitry", 17 1F3 (in) "Output Phase Function Select. Each pair determines the phase of the respective bank of outputs. See Table 3.", 18 1F1 (in) "Output Phase Function Select. Each pair determines the phase of the respective bank of outputs. See Table 3.", 19 DIS1 (in) "Output Disable. Each input controls the state of the respective output bank. When HIGH, the output bank is disabled to HOLD-OFF or High-Z state; the disable state is determined by MODE. When LOW, outputs 1Q[0:3] and 2Q[0:5] (See Datasheet)", 20 2Q4 (hiz) "Clock Outputs with Adjustable Phases and fNOM Divide Ratios. The output frequencies and phases are determined by [1:2]DS[0:1], and 1F[0:3] and 2F[0:1], respectively. See Table 3 and Table 4.", 21 VCCN (power) "Power Supply for the Output Buffers", 22 2Q5 (hiz) "Clock Outputs with Adjustable Phases and fNOM Divide Ratios. The output frequencies and phases are determined by [1:2]DS[0:1], and 1F[0:3] and 2F[0:1], respectively. See Table 3 and Table 4.", 23 GND (power) "Device Ground", 24 GND (power) "Device Ground", 25 MODE (in) "This pin determines the clock outputs’ disable state. When this input is HIGH, the clock outputs disables to high impedance state (High-Z). When this input is LOW, the clock outputs disables to HOLD-OFF mode. When in MID(See Datasheet)", 26 DIS2 (in) "Output Disable. Each input controls the state of the respective output bank. When HIGH, the output bank is disabled to HOLD-OFF or High-Z state; the disable state is determined by MODE. When LOW, outputs 1Q[0:3] and 2Q[0:5] (See Datasheet)", 27 VCCQ (power) "Power Supply for the Internal Circuitry", 28 1F0 (in) "Output Phase Function Select. Each pair determines the phase of the respective bank of outputs. See Table 3.", 29 FBF0 (in) "Feedback Output Phase Function Select. This input determines the phase of the QF output. See Table 3.", 30 1Q3 (hiz) "Clock Outputs with Adjustable Phases and fNOM Divide Ratios. The output frequencies and phases are determined by [1:2]DS[0:1], and 1F[0:3] and 2F[0:1], respectively. See Table 3 and Table 4.", 31 VCCN (power) "Power Supply for the Output Buffers", 32 1Q2 (hiz) "Clock Outputs with Adjustable Phases and fNOM Divide Ratios. The output frequencies and phases are determined by [1:2]DS[0:1], and 1F[0:3] and 2F[0:1], respectively. See Table 3 and Table 4.", 33 GND (power) "Device Ground", 34 FS (in) "Frequency Select. This input must be set according to the nominal frequency (fNOM). See Table 1.", 35 1F2 (in) "Output Phase Function Select. Each pair determines the phase of the respective bank of outputs. See Table 3.", 36 REFB+ (in) "Reference Inputs. These inputs can operate as differential PECL or single-ended TTL reference inputs to the PLL. When operating as a single-ended LVTTL input, the complementary input is left open.", 37 REFB- (in) "Reference Inputs. These inputs can operate as differential PECL or single-ended TTL reference inputs to the PLL. When operating as a single-ended LVTTL input, the complementary input is left open.", 38 REFSEL (in) "Reference Select Input. The REFSEL input controls the configuration of reference input When LOW, it uses the REFA pair as the reference input. When HIGH, it uses the REFB pair as the reference input. This input has an (See Datasheet)", 39 REFA- (in) "Reference Inputs. These inputs can operate as differential PECL or single-ended TTL reference inputs to the PLL. When operating as a single-ended LVTTL input, the complementary input is left open.", 40 REFA+ (in) "Reference Inputs. These inputs can operate as differential PECL or single-ended TTL reference inputs to the PLL. When operating as a single-ended LVTTL input, the complementary input is left open.", 41 VCCQ (power) "Power Supply for the Internal Circuitry", 42 FBK (in) "Feedback Input Clock. The PLL operates such that the rising edges of the reference and feedback signals are aligned in phase and frequency. This pin provides the clock output QF feedback to the phase detector.", 43 GND (power) "Device Ground", 44 QF (hiz) "Feedback Clock Output. This output is connected to the FBK input. The output frequency and phase are determined by FBDS[0:1] and FBF0, respectively. See Table 3 and Table 4.", 45 VCCN (power) "Power Supply for the Output Buffers", 46 1Q1 (hiz) "Clock Outputs with Adjustable Phases and fNOM Divide Ratios. The output frequencies and phases are determined by [1:2]DS[0:1], and 1F[0:3] and 2F[0:1], respectively. See Table 3 and Table 4.", 47 VCCN (power) "Power Supply for the Output Buffers", 48 1Q0 (hiz) "Clock Outputs with Adjustable Phases and fNOM Divide Ratios. The output frequencies and phases are determined by [1:2]DS[0:1], and 1F[0:3] and 2F[0:1], respectively. See Table 3 and Table 4.", 49 GND (power) "Device Ground", 50 FBDS0 (in) "Feedback Output Divider Function Select. This input determines the divider ratio of the QF output. See Table 4.", 51 FBDS1 (in) "Feedback Output Divider Function Select. This input determines the divider ratio of the QF output. See Table 4.", 52 LOCK (out) "PLL Lock Indicator. When HIGH, this output indicates that the internal PLL is locked to the reference signal. When LOW, it indicates that the PLL is attempting to acquire lock"